# EAGLE library part JAMMA_FEMALE_56 (library nma-eagle)
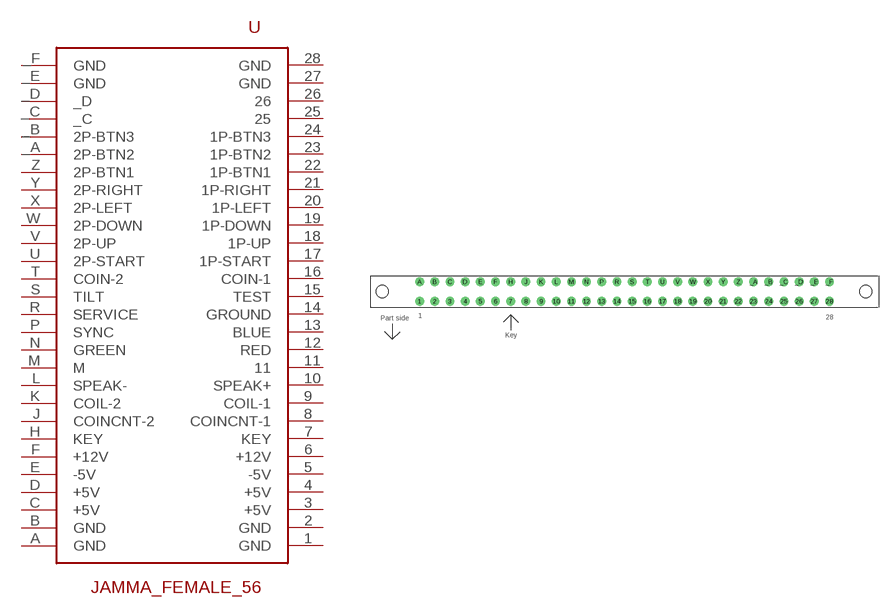
[diagram p10: symbol with the pads of JAMMA_FEMALE_56; footprint JAMMA_FEMALE_56]

Designator prefix -

## JAMMA_FEMALE_56 (MOUSER_REF: 798-CR7E-56DA-3.96E)  [JAMMA_FEMALE_56]
1  GND  pwr
2  GND  pwr
3  +5V  pwr
4  +5V  pwr
5  -5V  pwr
6  +12V  pwr
7  KEY  nc
8  COINCNT-1
9  COIL-1
10  SPEAK+
11  11  nc
12  RED  in
13  BLUE  in
14  GROUND  in
15  TEST  out
16  COIN-1  out
17  1P-START  out
18  1P-UP  out
19  1P-DOWN  out
20  1P-LEFT  out
21  1P-RIGHT  out
22  1P-BTN1  out
23  1P-BTN2  out
24  1P-BTN3  out
25  25  out
26  26  out
27  GND  pwr
28  GND  pwr
_A  2P-BTN2  out
_B  2P-BTN3  out
_C  _C  out
_D  _D  out
_E  GND  pwr
_F  GND  pwr
A  GND  pwr
B  GND  pwr
C  +5V  pwr
D  +5V  pwr
E  -5V  pwr
F  +12V  pwr
H  KEY  nc
J  COINCNT-2
K  COIL-2
L  SPEAK-
M  M  nc
N  GREEN  in
P  SYNC  in
R  SERVICE  out
S  TILT  out
T  COIN-2  out
U  2P-START  out
V  2P-UP  out
W  2P-DOWN  out
X  2P-LEFT  out
Y  2P-RIGHT  out
Z  2P-BTN1  out

## Footprint JAMMA_FEMALE_56 (pad centres in mm)
Jamma female edge connector (28x2 pins)
drill 1.32 pad 2.3: 1 -53.34,-2.54; 2 -49.38,-2.54; 3 -45.42,-2.54; 4 -41.46,-2.54; 5 -37.5,-2.54; 6 -33.54,-2.54; 7 -29.58,-2.54; 8 -25.62,-2.54; 9 -21.66,-2.54; 10 -17.7,-2.54; 11 -13.74,-2.54; 12 -9.78,-2.54; 13 -5.82,-2.54; 14 -1.86,-2.54; 15 2.1,-2.54; 16 6.06,-2.54; 17 10.02,-2.54; 18 13.98,-2.54; 19 17.94,-2.54; 20 21.9,-2.54; 21 25.86,-2.54; 22 29.82,-2.54; 23 33.78,-2.54; 24 37.74,-2.54; 25 41.7,-2.54; 26 45.66,-2.54; 27 49.62,-2.54; 28 53.58,-2.54; _A 33.78,2.54; _B 37.74,2.54; _C 41.7,2.54; _D 45.66,2.54; _E 49.62,2.54; _F 53.58,2.54; A -53.34,2.54; B -49.38,2.54; C -45.42,2.54; D -41.46,2.54; E -37.5,2.54; F -33.54,2.54; H -29.58,2.54; J -25.62,2.54; K -21.66,2.54; L -17.7,2.54; M -13.74,2.54; N -9.78,2.54; P -5.82,2.54; R -1.86,2.54; S 2.1,2.54; T 6.06,2.54; U 10.02,2.54; V 13.98,2.54; W 17.94,2.54; X 21.9,2.54; Y 25.86,2.54; Z 29.82,2.54
hole 3.18 at 63.055,0
hole 3.18 at -63.055,0